# Altium footprint library PcbLib1.PcbLib: 7 footprints
Each footprint in its own frame and in the unit in brackets; x right, y up, seen from the top. Pads: shape width x height; smd on the part's side, far side on the other; paste and mask are expansions set on the pad; w line width, h text height; cw(c..) or ccw(c..) is an arc to the next point about the centre after c.
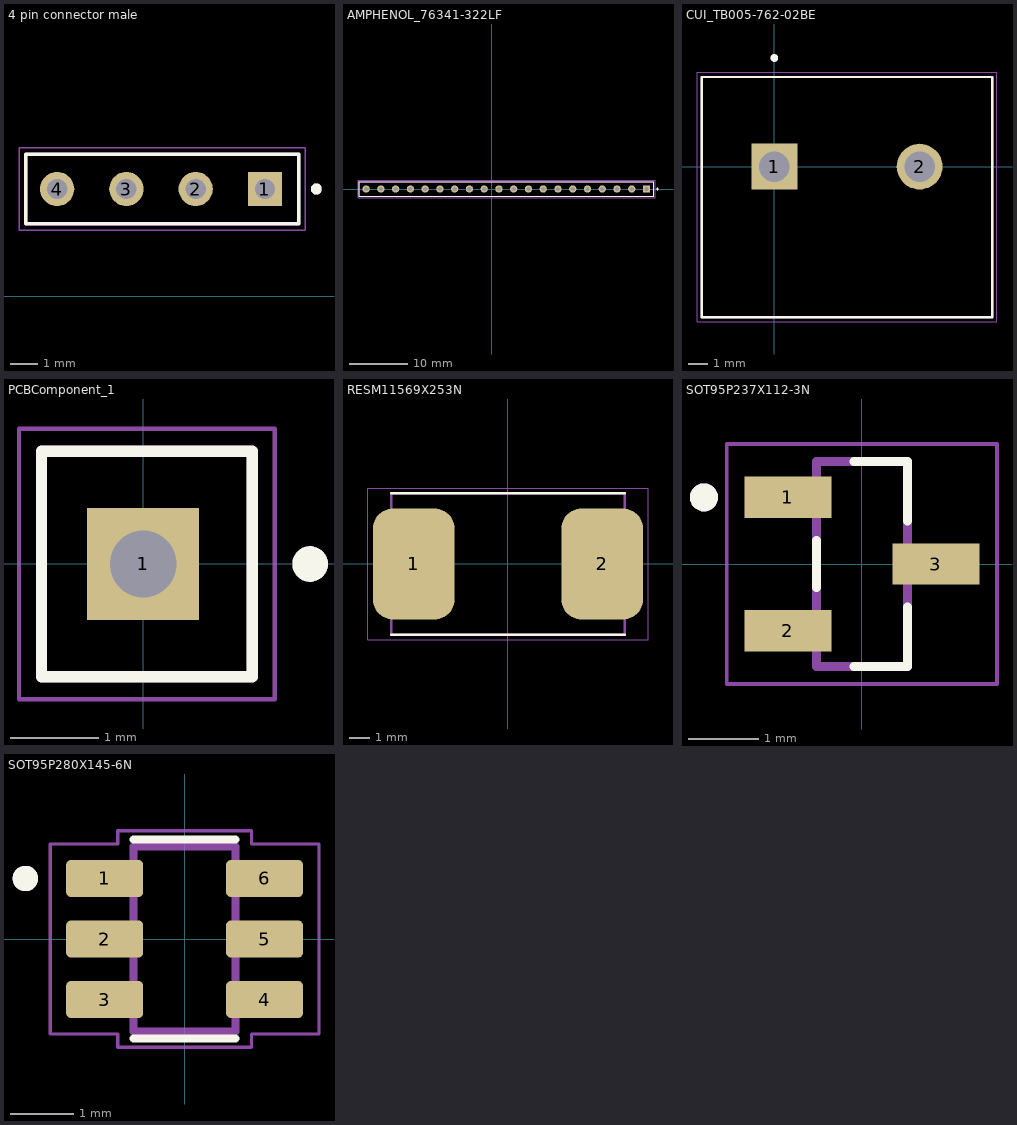
[diagram p0: the footprints below, top view; thin cyan lines are the x and y axes]

## 4 pin connector male [mil]
pads (4):
  rect 49.53x49.53 / inner round 49.53 / far side rect 49.53x49.53 hole 29.53: 1(900,155)
  round 49.53 hole 29.53: 2(800,155) 3(700,155) 4(600,155)
Top Overlay:
  circle w7.87: c974.02,155 r3.94
  lines w5: 555,105 555,205 948.43,205 948.43,105 555,105
Mechanical 13:
  circle w7.87: c974.02,155 r3.94
  lines w5: 560,105 948.43,105 ; 948.43,105 555,105 555,205 948.43,205 948.43,105
Mechanical 15:
  lines w1.97: 545,95.16 545,214.84 958.27,214.84 958.27,95.16 545,95.16

## AMPHENOL_76341-322LF [mm]
pads (20):
  rect 1.258x1.258 / inner round 1.258 / far side rect 1.258x1.258 hole 0.75: 01(26.67,0)
  round 1.258 hole 0.75: 02(24.13,0) 03(21.59,0) 04(19.05,0) 05(16.51,0) 06(13.97,0) 07(11.43,0) 08(8.89,0) 09(6.35,0) 10(3.81,0) 11(1.27,0) 12(-1.27,0) 13(-3.81,0) 14(-6.35,0) 15(-8.89,0) 16(-11.43,0) 17(-13.97,0) 18(-16.51,0) 19(-19.05,0) 20(-21.59,0)
Top Overlay:
  circle w0.2: c28.55,0 r0.1
  lines w0.127: -22.733,-1.27 27.9,-1.27 27.9,1.27 -22.733,1.27 -22.733,-1.27
Mechanical 13:
  circle w0.2: c28.55,0 r0.1
  lines w0.127: -22.733,-1.27 27.9,-1.27 ; -22.733,-1.27 27.9,-1.27 ; -22.733,-1.27 -22.733,1.27 27.9,1.27 27.9,-1.27
Mechanical 15:
  lines w0.05: -22.987,-1.52 -22.987,1.52 28.15,1.52 28.15,-1.52 -22.987,-1.52

## CUI_TB005-762-02BE [mm]
pads (2):
  rect 2.4x2.4 / inner round 2.4 / far side rect 2.4x2.4 hole 1.6: 1(0,0)
  round 2.4 hole 1.6: 2(7.62,0)
Top Overlay:
  circle w0.2: c0,5.7 r0.1
  lines w0.127: -3.81,-7.9 -3.81,4.7 11.43,4.7 11.43,-7.9 -3.81,-7.9
Mechanical 13:
  circle w0.2: c0,5.7 r0.1
  lines w0.127: -3.81,-7.9 -3.81,4.7 11.43,4.7 11.43,-7.9 -3.81,-7.9
Mechanical 15:
  lines w0.05: -4.06,-8.15 11.68,-8.15 11.68,4.95 -4.06,4.95 -4.06,-8.15
3D body "step_temp.STEP": height 21.7, standoff -4.75, extent -4.318,-7.697 11.522,4.903

## PCBComponent_1 [mm]
pads (1):
  rect 1.258x1.258 / inner round 1.258 / far side rect 1.258x1.258 hole 0.75: 1(0,0)
Top Overlay:
  circle w0.2: c1.88,0 r0.1
  lines w0.127: -1.143,-1.27 1.23,-1.27 1.23,1.27 -1.143,1.27 -1.143,-1.27
Mechanical 13:
  circle w0.2: c1.88,0 r0.1
  lines w0.127: -1.143,-1.27 1.23,-1.27 ; -1.143,-1.27 1.23,-1.27 ; -1.143,-1.27 -1.143,1.27 1.23,1.27 1.23,-1.27
Mechanical 15:
  lines w0.05: -1.397,-1.52 -1.397,1.52 1.48,1.52 1.48,-1.52 -1.397,-1.52

## RESM11569X253N [mm]
pads (2):
  rrect50% 4.04x5.51 smd: 1(-4.665,0) 2(4.665,0)
Top Overlay:
  lines w0.127: -5.78,-3.49 5.78,-3.49 ; -5.78,3.49 5.78,3.49
Mechanical 13:
  lines w0.127: -5.78,-3.49 -5.78,3.49 5.78,3.49 5.78,-3.49 -5.78,-3.49
Mechanical 15:
  lines w0.05: -6.935,-3.74 -6.935,3.74 6.935,3.74 6.935,-3.74 -6.935,-3.74
3D body "WSR 2.STEP": height 2.42, standoff 0.01, extent -5.78,-3.556 5.78,3.424

## SOT95P237X112-3N [mm]
height 1.12
pads (3):
  rect 1.24x0.59 smd: 1(-1.055,0.95) 2(-1.055,-0.95) 3(1.055,0)
Top Overlay:
  circle w0.2: c-2.25,0.95 r0.1
  lines w0.127: -0.65,-0.335 -0.65,0.335 ; -0.115,-1.46 0.65,-1.46 0.65,-0.615 ; -0.115,1.46 0.65,1.46 0.65,0.615
Mechanical 13:
  circle w0.2: c-2.25,0.95 r0.1
  lines w0.127: -0.65,-1.46 0.65,-1.46 0.65,1.46 -0.65,1.46 -0.65,-1.46
Mechanical 15:
  lines w0.05: -1.925,-1.71 1.925,-1.71 1.925,1.71 -1.925,1.71 -1.925,-1.71
3D body "step_temp.STEP": height 1.12, standoff 0, extent -1.185,-1.46 1.185,1.46

## SOT95P280X145-6N [mm]
pads (6):
  rrect25% 1.21x0.58 smd: 1(-1.255,0.95) 2(-1.255,0) 3(-1.255,-0.95) 4(1.255,-0.95) 5(1.255,0) 6(1.255,0.95)
Top Overlay:
  circle w0.2: c-2.5,0.95 r0.1
  lines w0.127: -0.8,-1.56 0.8,-1.56 ; -0.8,1.56 0.8,1.56
Mechanical 13:
  circle w0.2: c-2.5,0.95 r0.1
  lines w0.127: -0.8,-1.45 -0.8,1.45 0.8,1.45 0.8,-1.45 -0.8,-1.45
Mechanical 15:
  lines w0.05: -2.11,-1.49 -2.11,1.49 -1.05,1.49 -1.05,1.7 1.05,1.7 1.05,1.49 2.11,1.49 2.11,-1.49 1.05,-1.49 1.05,-1.7 -1.05,-1.7 -1.05,-1.49 -2.11,-1.49
3D body "step_temp.STEP": height 1.45, standoff 0, extent -1.4,-1.45 1.4,1.45